# Altium schematic symbol library UCC2897.SchLib: 1 symbol
Pins are listed as number, name and electrical type; pins without a type are passive.

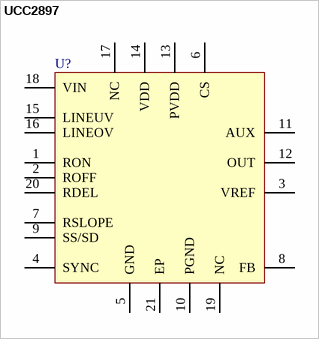
[diagram p0: symbol UCC2897]

## UCC2897
designator U?
pins: 1 RON, 2 ROFF, 3 VREF, 4 SYNC, 5 GND, 6 CS, 7 RSLOPE, 8 FB, 9 SS/SD, 10 PGND, 11 AUX, 12 OUT, 13 PVDD, 14 VDD, 15 LINEUV, 16 LINEOV, 17 NC, 18 VIN, 19 NC, 20 RDEL, 21 EP